# EAGLE library part LT3750 (library boostTest1215)
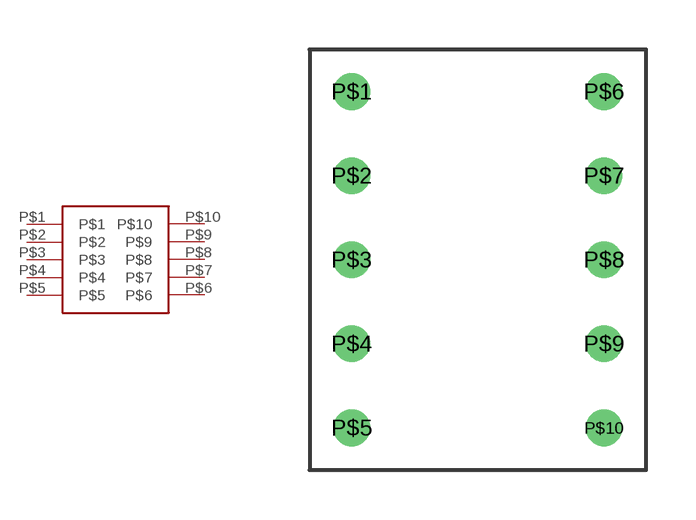
[diagram p0: symbol with the pads of LT3750; footprint LT3750]

Designator prefix -

## LT3750  [LT3750]
P$1  P$1
P$2  P$2
P$3  P$3
P$4  P$4
P$5  P$5
P$6  P$6
P$7  P$7
P$8  P$8
P$9  P$9
P$10  P$10

## Footprint LT3750 (pad centres in mm)
drill 0.6: P$1 0,12.7; P$2 0,10.16; P$3 0,7.62; P$4 0,5.08; P$5 0,2.54; P$6 7.62,12.7; P$7 7.62,10.16; P$8 7.62,7.62; P$9 7.62,5.08; P$10 7.62,2.54